# Altium footprint library 2021-04-19_16-51-58.PcbLib: 3 footprints
Each footprint in its own frame and in the unit in brackets; x right, y up, seen from the top. Pads: shape width x height; smd on the part's side, far side on the other; paste and mask are expansions set on the pad; w line width, h text height; cw(c..) or ccw(c..) is an arc to the next point about the centre after c.
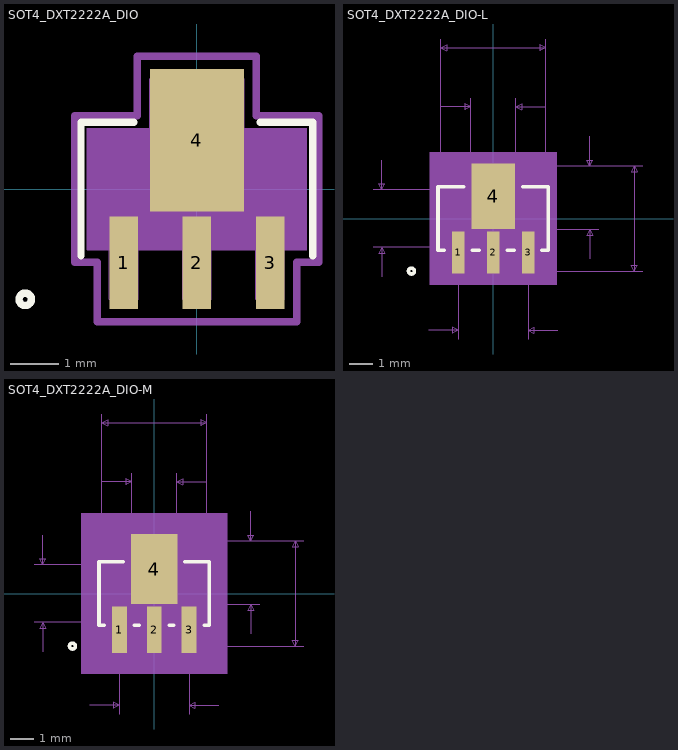
[diagram p0: the footprints below, top view; thin cyan lines are the x and y axes]

## SOT4_DXT2222A_DIO [mil]
pads (4):
  rect 23x75 smd paste+0 mask+0: 1(-59,-59.5) 2(0,-59.5) 3(59,-59.5)
  rect 76x115 smd paste+0 mask+0: 4(0,39.5)
Top Overlay:
  circle w6: c-138.5,-89 r5
  lines w6: -93.5,-54 -93.5,54 -51.1,54 ; 51.1,54 93.5,54 93.5,-54
Mechanical 13:
  circle w0: c-78.5,-39 r5
  lines w1: -88.5,-49 -88.5,49 88.5,49 88.5,-49 -88.5,-49 ; -70.5,-89 -47.5,-89 -47.5,-49 -70.5,-49 -70.5,-89 ; -38,49 -38,89 38,89 38,49 -38,49 ; -11.5,-89 11.5,-89 11.5,-49 -11.5,-49 -11.5,-89 ; 47.5,-89 70.5,-89 70.5,-49 47.5,-49 47.5,-89
Mechanical 15:
  region: 88.5,-49 -88.5,-49 -88.5,49 88.5,49
  lines w6: -98.5,-59 -80.5,-59 -80.5,-107 80.5,-107 80.5,-59 98.5,-59 98.5,59 48,59 48,107 -48,107 -48,59 -98.5,59 -98.5,-59
3D body: height 10, standoff 0, extent 0,0 10,10

## SOT4_DXT2222A_DIO-L [mil]
pads (4):
  rect 21x71 smd paste+0 mask+0: 1(-59,-57.5) 2(0,-57.5) 3(59,-57.5)
  rect 74x111 smd paste+0 mask+0: 4(0,37.5)
Top Overlay:
  circle w6: c-138.5,-89 r5
  lines w6: -82.6,-54 -93.5,-54 -93.5,54 -50.1,54 ; -35.4,-54 -23.6,-54 ; 23.6,-54 35.4,-54 ; 50.1,54 93.5,54 93.5,-54 82.6,-54
Mechanical 5:
  region: -107.5,112 107.5,112 107.5,-112 -107.5,-112
Mechanical 7:
  lines w1: -203.5,-49 0,-49 ; -203.5,49 0,49 ; -188.5,-99 -188.5,-49 ; -188.5,99 -188.5,49 ; -109,-189 -59,-189 ; -88.5,49 -88.5,304 ; -88,189 -38,189 ; -59,-204 -59,-89 ; -38,89 -38,204 ; 0,-89 253.5,-89 ; 0,-18 178.5,-18 ; 38,89 38,204 ; 59,-204 59,-89 ; 88,189 38,189 ; 88.5,49 88.5,304 ; 109,-189 59,-189 ; 163.5,-68 163.5,-18 ; 163.5,139 163.5,89 ; 178.5,89 0,89 253.5,89 ; -188.5,-49 -193.5,-59 -183.5,-59 -188.5,-49 ; -188.5,49 -193.5,59 -183.5,59 -188.5,49 ; -88.5,289 88.5,289 ; -88.5,289 -78.5,294 -78.5,284 -88.5,289 ; -59,-189 -69,-184 -69,-194 -59,-189 ; -38,189 -48,194 -48,184 -38,189 ; 38,189 48,194 48,184 38,189 ; 59,-189 69,-184 69,-194 59,-189 ; 88.5,289 78.5,294 78.5,284 88.5,289 ; 163.5,-18 158.5,-28 168.5,-28 163.5,-18 ; 163.5,89 158.5,99 168.5,99 163.5,89 ; 238.5,-89 238.5,89 ; 238.5,-89 233.5,-79 243.5,-79 238.5,-89 ; 238.5,89 233.5,79 243.5,79 238.5,89
  text "Top Padstyle: RX74Y111D0T" at -312.5,-343 h50
  text "Bottom Padstyle: RX21Y71D0T" at -337.5,-418 h50
  text "Alt 1 Padstyle: OX60Y90D30P" at -337.5,-493 h50
  text "Alt 2 Padstyle: OX90Y60D30P" at -337.5,-568 h50
  text "0.178in/4.521mm" at 258.5,-12.5 h25
  text "0.107in/2.718mm" at 183.5,23 h25
  text "0.118in/2.997mm" at -93.75,-234 h25
  text "0.076in/1.93mm" at -87.5,209 h25
  text "0.177in/4.496mm" at -93.75,309 h25
  text "0.098in/2.489mm" at -396,-12.5 h25
Mechanical 13:
  circle w0: c-78.5,-39 r5
  lines w1: -88.5,-49 88.5,-49 88.5,49 -88.5,49 -88.5,-49 ; -70.5,-89 -70.5,-49 -47.5,-49 -47.5,-89 -70.5,-89 ; -38,49 38,49 38,89 -38,89 -38,49 ; -11.5,-89 -11.5,-49 11.5,-49 11.5,-89 -11.5,-89 ; 47.5,-89 47.5,-49 70.5,-49 70.5,-89 47.5,-89
Mechanical 15:
  region: -92.5,-53 -92.5,53 -42,53 -42,97 42,97 42,53 92.5,53 92.5,-53 74.5,-53 74.5,-97 -74.5,-97 -74.5,-53
  region: 88.5,-49 -88.5,-49 -88.5,49 88.5,49
  lines w6: -92.5,-53 -92.5,53 -41,53 -41,97 41,97 41,53 92.5,53 92.5,-53 73.5,-53 73.5,-97 -73.5,-97 -73.5,-53 -92.5,-53
3D body: height 10, standoff 0, extent 0,0 10,10

## SOT4_DXT2222A_DIO-M [mil]
pads (4):
  rect 25x79 smd paste+0 mask+0: 1(-59,-61.5) 2(0,-61.5) 3(59,-61.5)
  rect 78x119 smd paste+0 mask+0: 4(0,41.5)
Top Overlay:
  circle w6: c-138.5,-89 r5
  lines w6: -84.6,-54 -93.5,-54 -93.5,54 -52.1,54 ; -33.4,-54 -25.6,-54 ; 25.6,-54 33.4,-54 ; 52.1,54 93.5,54 93.5,-54 84.6,-54
Mechanical 5:
  region: -123.5,136 123.5,136 123.5,-136 -123.5,-136
Mechanical 7:
  lines w1: -203.5,-49 0,-49 ; -203.5,49 0,49 ; -188.5,-99 -188.5,-49 ; -188.5,99 -188.5,49 ; -109,-189 -59,-189 ; -88.5,49 -88.5,304 ; -88,189 -38,189 ; -59,-204 -59,-89 ; -38,89 -38,204 ; 0,-89 253.5,-89 ; 0,-18 178.5,-18 ; 38,89 38,204 ; 59,-204 59,-89 ; 88,189 38,189 ; 88.5,49 88.5,304 ; 109,-189 59,-189 ; 163.5,-68 163.5,-18 ; 163.5,139 163.5,89 ; 178.5,89 0,89 253.5,89 ; -188.5,-49 -193.5,-59 -183.5,-59 -188.5,-49 ; -188.5,49 -193.5,59 -183.5,59 -188.5,49 ; -88.5,289 88.5,289 ; -88.5,289 -78.5,294 -78.5,284 -88.5,289 ; -59,-189 -69,-184 -69,-194 -59,-189 ; -38,189 -48,194 -48,184 -38,189 ; 38,189 48,194 48,184 38,189 ; 59,-189 69,-184 69,-194 59,-189 ; 88.5,289 78.5,294 78.5,284 88.5,289 ; 163.5,-18 158.5,-28 168.5,-28 163.5,-18 ; 163.5,89 158.5,99 168.5,99 163.5,89 ; 238.5,-89 238.5,89 ; 238.5,-89 233.5,-79 243.5,-79 238.5,-89 ; 238.5,89 233.5,79 243.5,79 238.5,89
  text "Top Padstyle: RX78Y119D0T" at -312.5,-351 h50
  text "Bottom Padstyle: RX25Y79D0T" at -337.5,-426 h50
  text "Alt 1 Padstyle: OX60Y90D30P" at -337.5,-501 h50
  text "Alt 2 Padstyle: OX90Y60D30P" at -337.5,-576 h50
  text "0.178in/4.521mm" at 258.5,-12.5 h25
  text "0.107in/2.718mm" at 183.5,23 h25
  text "0.118in/2.997mm" at -93.75,-234 h25
  text "0.076in/1.93mm" at -87.5,209 h25
  text "0.177in/4.496mm" at -93.75,309 h25
  text "0.098in/2.489mm" at -396,-12.5 h25
Mechanical 13:
  circle w0: c-78.5,-39 r5
  lines w1: -88.5,-49 88.5,-49 88.5,49 -88.5,49 -88.5,-49 ; -70.5,-89 -70.5,-49 -47.5,-49 -47.5,-89 -70.5,-89 ; -38,49 38,49 38,89 -38,89 -38,49 ; -11.5,-89 -11.5,-49 11.5,-49 11.5,-89 -11.5,-89 ; 47.5,-89 47.5,-49 70.5,-49 70.5,-89 47.5,-89
Mechanical 15:
  region: -108.5,-69 -108.5,69 -58,69 -58,121 58,121 58,69 108.5,69 108.5,-69 90.5,-69 90.5,-121 -90.5,-121 -90.5,-69
  region: 88.5,-49 -88.5,-49 -88.5,49 88.5,49
  lines w6: -108.5,-69 -108.5,69 -59,69 -59,121 59,121 59,69 108.5,69 108.5,-69 91.5,-69 91.5,-121 -91.5,-121 -91.5,-69 -108.5,-69
3D body: height 10, standoff 0, extent 0,0 10,10